# Altium integrated library Analog Devices Switches and Multiplexers Multiplexers (Muxes).IntLib: 481 symbols (part 18 of 23)
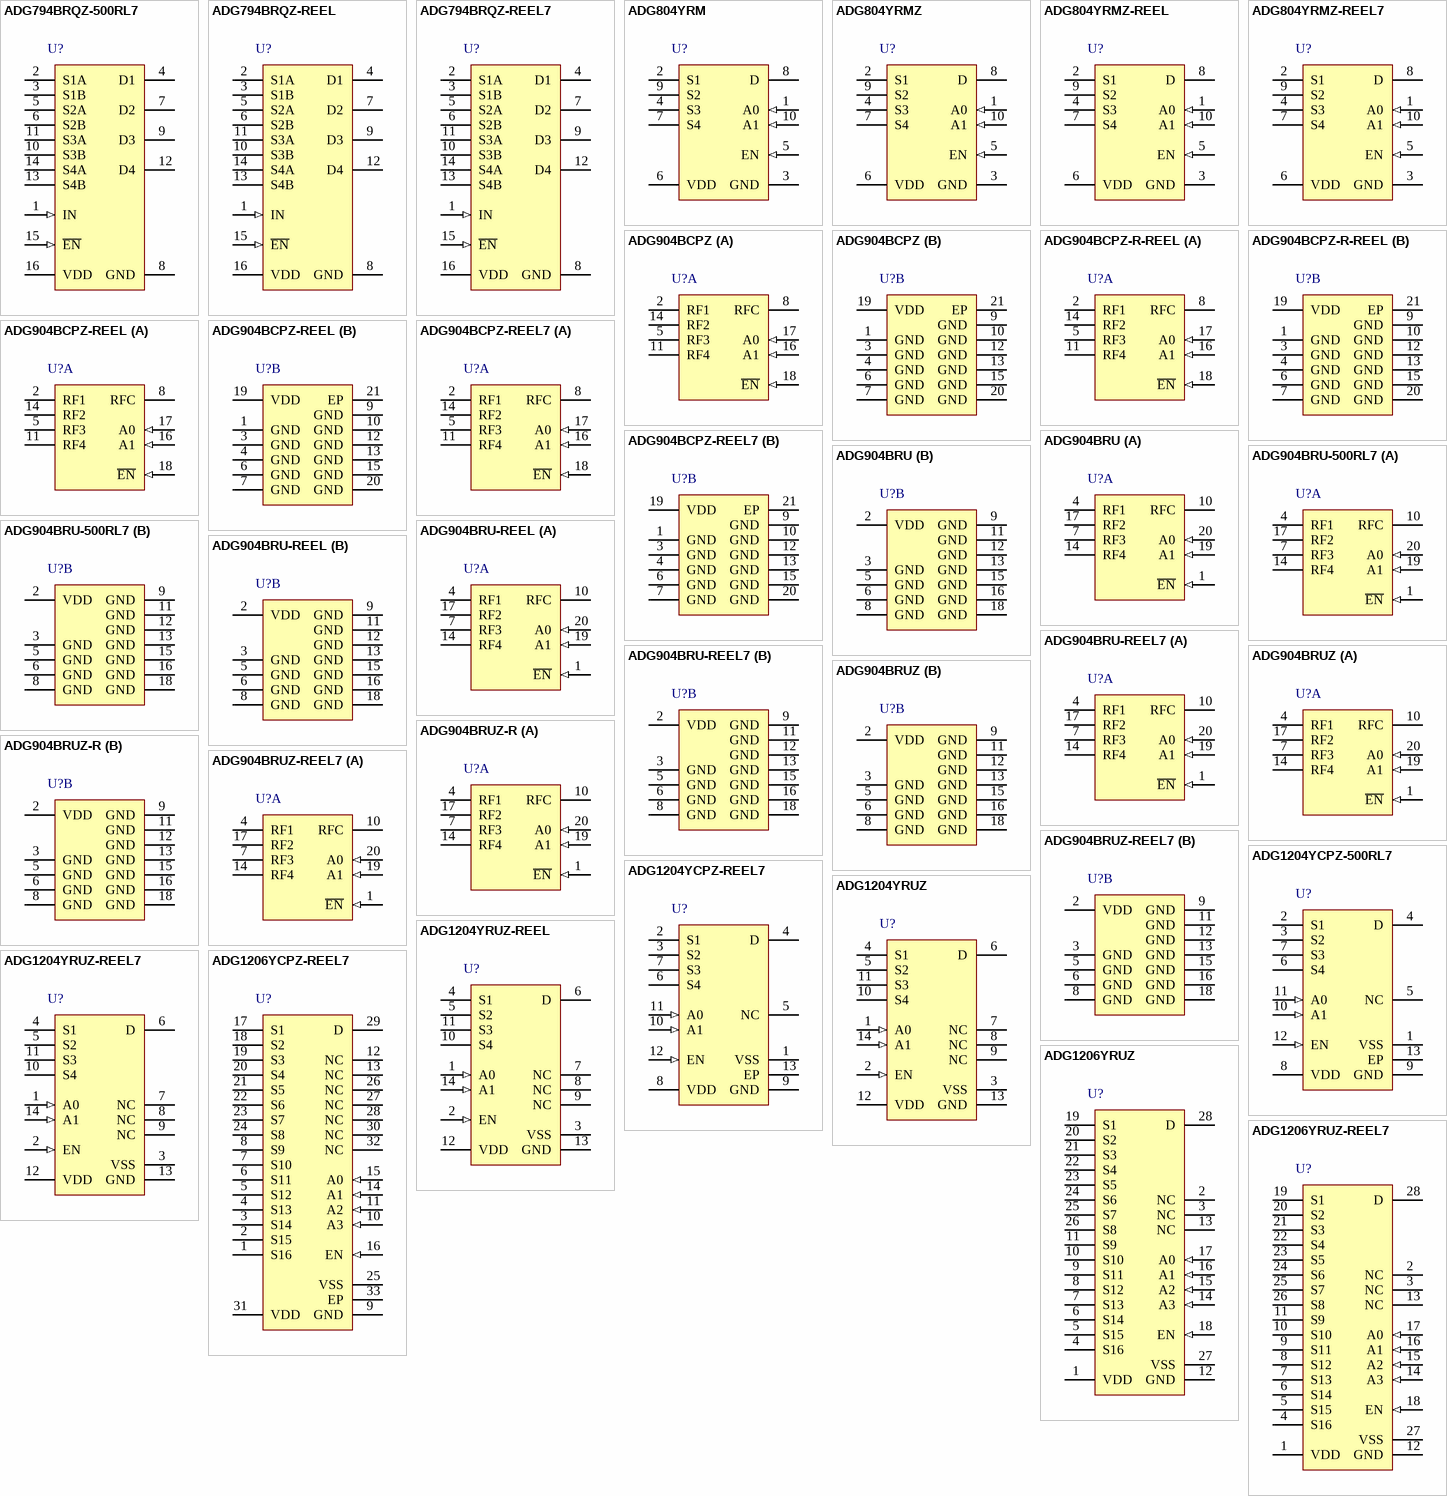
[diagram p34: symbols ADG794BRQZ-500RL7 to ADG1206YRUZ-REEL7]

## ADG904BCPZ-R-REEL
designator U?
Wideband 2.5 GHz, 37 dB Isolation at 1 GHz, CMOS 1.65 to 2.75 V, 4:1 Mux / SP4T, -40 to 85 degC, 20-pin QFN (CP-20-1), Reel; Manufacturer: Analog Devices; PartNumber: ADG904BCPZ-R-REEL; Bandwidth (Hz): 2.5G; Supply V Guar Performance: Single_(+2.5V); t transition (s): 12n; DatasheetVersion: Rev. B; PackageVersion: 061708-A, 07/2011; PackageReference: CP-20-6; PackageDescription: 20-Pin Lead Frame Chip Scale Package, Body 4 x 4 mm, Pitch 0.5 mm; Supplier 1: Mouser; Supplier Part Number 1: N/A; Packing: Reel; Mounting Technology: Surface Mount; Code_JEDEC: MO-220; ComponentLink1Description: Manufacturer URL; ComponentLink1URL: http://www.analog.com/en/index.html; ComponentLink2Description: Datasheet; ComponentLink2URL: http://www.analog.com/static/imported-files/data_sheets/ADG904_904R.pdf; ComponentLink3Description: Package Specification; ComponentLink3URL: http://www.analog.com/static/imported-files/packages/PKG_PDF/LFCSP(CP)/CP_20_6.pdf
footprint ADI-CP-20-6_N (QFN, 20-Leads, Body 4x4mm, Pitch 0.5mm, Thermal Pad 2.15x2.15mm, IPC Medium Density)
footprint ADI-CP-20-6_L (QFN, 20-Leads, Body 4x4mm, Pitch 0.5mm, Thermal Pad 2.15x2.15mm, IPC High Density)
footprint ADI-CP-20-6_M (QFN, 20-Leads, Body 4x4mm, Pitch 0.5mm, Thermal Pad 2.15x2.15mm, IPC Low Density)
part A pins: 2 RF1 "RF1 Port.", 5 RF3 "RF3 Port.", 8 RFC "Common RF Port for Switch.", 11 RF4 "RF4 Port.", 14 RF2 "RF2 Port.", 16 A1 (in) "Logic Control Input.", 17 A0 (in) "Logic Control Input.", 18 ~{EN} (in) "Active Low Digital Input. When high, the device is disabled and all switches are off. When low, Ax logic inputs determine On switches."
part B pins: 1 GND (power) "Ground Reference Point for All Circuitry on the Part.", 3 GND (power) "Ground Reference Point for All Circuitry on the Part.", 4 GND (power) "Ground Reference Point for All Circuitry on the Part.", 6 GND (power) "Ground Reference Point for All Circuitry on the Part.", 7 GND (power) "Ground Reference Point for All Circuitry on the Part.", 9 GND (power) "Ground Reference Point for All Circuitry on the Part.", 10 GND (power) "Ground Reference Point for All Circuitry on the Part.", 12 GND (power) "Ground Reference Point for All Circuitry on the Part.", 13 GND (power) "Ground Reference Point for All Circuitry on the Part.", 15 GND (power) "Ground Reference Point for All Circuitry on the Part.", 19 VDD (power) "Power Supply Input. These parts can be operated from 1.65 V to 2.75 V. VDD should be decoupled to GND.", 20 GND (power) "Ground Reference Point for All Circuitry on the Part.", 21 EP (power) "Exposed Pad."

## ADG904BCPZ-REEL
designator U?
Wideband 2.5 GHz, 37 dB Isolation at 1 GHz, CMOS 1.65 to 2.75 V, 4:1 Mux / SP4T, -40 to 85 degC, 20-pin QFN (CP-20-1), Reel; Manufacturer: Analog Devices; PartNumber: ADG904BCPZ-REEL; Bandwidth (Hz): 2.5G; Supply V Guar Performance: Single_(+2.5V); t transition (s): 12n; DatasheetVersion: Rev. B; PackageVersion: 061708-A, 07/2011; PackageReference: CP-20-6; PackageDescription: 20-Pin Lead Frame Chip Scale Package, Body 4 x 4 mm, Pitch 0.5 mm; Supplier 1: Digi-Key; Supplier Part Number 1: ADG904BCPZ-REEL-ND; Supplier 2: Mouser; Supplier Part Number 2: 584-ADG904BCPZ-R; Packing: Reel; Mounting Technology: Surface Mount; Code_JEDEC: MO-220; ComponentLink1Description: Manufacturer URL; ComponentLink1URL: http://www.analog.com/en/index.html; ComponentLink2Description: Datasheet; ComponentLink2URL: http://www.analog.com/static/imported-files/data_sheets/ADG904_904R.pdf; ComponentLink3Description: Package Specification; ComponentLink3URL: http://www.analog.com/static/imported-files/packages/PKG_PDF/LFCSP(CP)/CP_20_6.pdf
footprint ADI-CP-20-6_N (QFN, 20-Leads, Body 4x4mm, Pitch 0.5mm, Thermal Pad 2.15x2.15mm, IPC Medium Density)
footprint ADI-CP-20-6_L (QFN, 20-Leads, Body 4x4mm, Pitch 0.5mm, Thermal Pad 2.15x2.15mm, IPC High Density)
footprint ADI-CP-20-6_M (QFN, 20-Leads, Body 4x4mm, Pitch 0.5mm, Thermal Pad 2.15x2.15mm, IPC Low Density)
part A pins: 2 RF1 "RF1 Port.", 5 RF3 "RF3 Port.", 8 RFC "Common RF Port for Switch.", 11 RF4 "RF4 Port.", 14 RF2 "RF2 Port.", 16 A1 (in) "Logic Control Input.", 17 A0 (in) "Logic Control Input.", 18 ~{EN} (in) "Active Low Digital Input. When high, the device is disabled and all switches are off. When low, Ax logic inputs determine On switches."
part B pins: 1 GND (power) "Ground Reference Point for All Circuitry on the Part.", 3 GND (power) "Ground Reference Point for All Circuitry on the Part.", 4 GND (power) "Ground Reference Point for All Circuitry on the Part.", 6 GND (power) "Ground Reference Point for All Circuitry on the Part.", 7 GND (power) "Ground Reference Point for All Circuitry on the Part.", 9 GND (power) "Ground Reference Point for All Circuitry on the Part.", 10 GND (power) "Ground Reference Point for All Circuitry on the Part.", 12 GND (power) "Ground Reference Point for All Circuitry on the Part.", 13 GND (power) "Ground Reference Point for All Circuitry on the Part.", 15 GND (power) "Ground Reference Point for All Circuitry on the Part.", 19 VDD (power) "Power Supply Input. These parts can be operated from 1.65 V to 2.75 V. VDD should be decoupled to GND.", 20 GND (power) "Ground Reference Point for All Circuitry on the Part.", 21 EP (power) "Exposed Pad."

## ADG904BCPZ-REEL7
designator U?
Wideband 2.5 GHz, 37 dB Isolation at 1 GHz, CMOS 1.65 to 2.75 V, 4:1 Mux / SP4T, -40 to 85 degC, 20-pin QFN (CP-20-1), Reel; Manufacturer: Analog Devices; PartNumber: ADG904BCPZ-REEL7; Bandwidth (Hz): 2.5G; Supply V Guar Performance: Single_(+2.5V); t transition (s): 12n; DatasheetVersion: Rev. B; PackageVersion: 061708-A, 07/2011; PackageReference: CP-20-6; PackageDescription: 20-Pin Lead Frame Chip Scale Package, Body 4 x 4 mm, Pitch 0.5 mm; Supplier 1: Digi-Key; Supplier Part Number 1: ADG904BCPZ-REEL7-ND; Supplier 2: Mouser; Supplier Part Number 2: 584-ADG904BCPZ-R7; Packing: Reel; Mounting Technology: Surface Mount; Code_JEDEC: MO-220; ComponentLink1Description: Manufacturer URL; ComponentLink1URL: http://www.analog.com/en/index.html; ComponentLink2Description: Datasheet; ComponentLink2URL: http://www.analog.com/static/imported-files/data_sheets/ADG904_904R.pdf; ComponentLink3Description: Package Specification; ComponentLink3URL: http://www.analog.com/static/imported-files/packages/PKG_PDF/LFCSP(CP)/CP_20_6.pdf
footprint ADI-CP-20-6_N (QFN, 20-Leads, Body 4x4mm, Pitch 0.5mm, Thermal Pad 2.15x2.15mm, IPC Medium Density)
footprint ADI-CP-20-6_L (QFN, 20-Leads, Body 4x4mm, Pitch 0.5mm, Thermal Pad 2.15x2.15mm, IPC High Density)
footprint ADI-CP-20-6_M (QFN, 20-Leads, Body 4x4mm, Pitch 0.5mm, Thermal Pad 2.15x2.15mm, IPC Low Density)
part A pins: 2 RF1 "RF1 Port.", 5 RF3 "RF3 Port.", 8 RFC "Common RF Port for Switch.", 11 RF4 "RF4 Port.", 14 RF2 "RF2 Port.", 16 A1 (in) "Logic Control Input.", 17 A0 (in) "Logic Control Input.", 18 ~{EN} (in) "Active Low Digital Input. When high, the device is disabled and all switches are off. When low, Ax logic inputs determine On switches."
part B pins: 1 GND (power) "Ground Reference Point for All Circuitry on the Part.", 3 GND (power) "Ground Reference Point for All Circuitry on the Part.", 4 GND (power) "Ground Reference Point for All Circuitry on the Part.", 6 GND (power) "Ground Reference Point for All Circuitry on the Part.", 7 GND (power) "Ground Reference Point for All Circuitry on the Part.", 9 GND (power) "Ground Reference Point for All Circuitry on the Part.", 10 GND (power) "Ground Reference Point for All Circuitry on the Part.", 12 GND (power) "Ground Reference Point for All Circuitry on the Part.", 13 GND (power) "Ground Reference Point for All Circuitry on the Part.", 15 GND (power) "Ground Reference Point for All Circuitry on the Part.", 19 VDD (power) "Power Supply Input. These parts can be operated from 1.65 V to 2.75 V. VDD should be decoupled to GND.", 20 GND (power) "Ground Reference Point for All Circuitry on the Part.", 21 EP (power) "Exposed Pad."

## ADG904BRU
designator U?
Wideband 2.5 GHz, 37 dB Isolation at 1 GHz, CMOS 1.65 to 2.75 V, 4:1 Mux / SP4T, -40 to 85 degC, 20-pin SOP (RU-20), Tube; Manufacturer: Analog Devices; PartNumber: ADG904BRU; Bandwidth (Hz): 2.5G; Supply V Guar Performance: Single_(+2.5V); t transition (s): 12n; DatasheetVersion: Rev. B; PackageVersion: Jan-03; PackageReference: RU-20; PackageDescription: 20-Pin Thin Shrink Small Outline Package, Body 6.5 x 4.4 mm, Pitch 0.65 mm; Supplier 1: Digi-Key; Supplier Part Number 1: ADG904BRU-ND; Supplier 2: Newark; Supplier Part Number 2: 59K1698; Supplier 3: Mouser; Supplier Part Number 3: N/A; Packing: Tube; Mounting Technology: Surface Mount; Code_JEDEC: MO-153AC; ComponentLink1Description: Manufacturer URL; ComponentLink1URL: http://www.analog.com/en/index.html; ComponentLink2Description: Datasheet; ComponentLink2URL: http://www.analog.com/static/imported-files/data_sheets/ADG904_904R.pdf; ComponentLink3Description: Package Specification; ComponentLink3URL: http://www.analog.com/static/imported-files/packages/364515793657813558433715854054607941441RU20.pdf
footprint ADI-RU-20_N (SOP, 20-Leads, Body 6.5x4.4mm, Pitch 0.65mm, IPC Medium Density)
footprint ADI-RU-20_L (SOP, 20-Leads, Body 6.5x4.4mm, Pitch 0.65mm, IPC High Density)
footprint ADI-RU-20_M (SOP, 20-Leads, Body 6.5x4.4mm, Pitch 0.65mm, IPC Low Density)
part A pins: 1 ~{EN} (in) "Active Low Digital Input. When high, the device is disabled and all switches are off. When low, Ax logic inputs determine On switches.", 4 RF1 "RF1 Port.", 7 RF3 "RF3 Port.", 10 RFC "Common RF Port for Switch.", 14 RF4 "RF4 Port.", 17 RF2 "RF2 Port.", 19 A1 (in) "Logic Control Input.", 20 A0 (in) "Logic Control Input."
part B pins: 2 VDD (power) "Power Supply Input. These parts can be operated from 1.65 V to 2.75 V. VDD should be decoupled to GND.", 3 GND (power) "Ground Reference Point for All Circuitry on the Part.", 5 GND (power) "Ground Reference Point for All Circuitry on the Part.", 6 GND (power) "Ground Reference Point for All Circuitry on the Part.", 8 GND (power) "Ground Reference Point for All Circuitry on the Part.", 9 GND (power) "Ground Reference Point for All Circuitry on the Part.", 11 GND (power) "Ground Reference Point for All Circuitry on the Part.", 12 GND (power) "Ground Reference Point for All Circuitry on the Part.", 13 GND (power) "Ground Reference Point for All Circuitry on the Part.", 15 GND (power) "Ground Reference Point for All Circuitry on the Part.", 16 GND (power) "Ground Reference Point for All Circuitry on the Part.", 18 GND (power) "Ground Reference Point for All Circuitry on the Part."

## ADG904BRU-500RL7
designator U?
Wideband 2.5 GHz, 37 dB Isolation at 1 GHz, CMOS 1.65 to 2.75 V, 4:1 Mux / SP4T, -40 to 85 degC, 20-pin SOP (RU-20), Reel; Manufacturer: Analog Devices; PartNumber: ADG904BRU-500RL7; Bandwidth (Hz): 2.5G; Supply V Guar Performance: Single (+1.65V to +2.75V); t transition (s): 12n; DatasheetVersion: Rev. B; PackageVersion: Jan-03; PackageReference: RU-20; PackageDescription: 20-Pin Thin Shrink Small Outline Package, Body 6.5 x 4.4 mm, Pitch 0.65 mm; Supplier 1: Mouser; Supplier Part Number 1: N/A; Packing: Reel; Mounting Technology: Surface Mount; Code_JEDEC: MO-153AC; ComponentLink1Description: Manufacturer URL; ComponentLink1URL: http://www.analog.com/en/index.html; ComponentLink2Description: Datasheet; ComponentLink2URL: http://www.analog.com/static/imported-files/data_sheets/ADG904_904R.pdf; ComponentLink3Description: Package Specification; ComponentLink3URL: http://www.analog.com/static/imported-files/packages/364515793657813558433715854054607941441RU20.pdf
footprint ADI-RU-20_N (SOP, 20-Leads, Body 6.5x4.4mm, Pitch 0.65mm, IPC Medium Density)
footprint ADI-RU-20_L (SOP, 20-Leads, Body 6.5x4.4mm, Pitch 0.65mm, IPC High Density)
footprint ADI-RU-20_M (SOP, 20-Leads, Body 6.5x4.4mm, Pitch 0.65mm, IPC Low Density)
part A pins: 1 ~{EN} (in) "Active Low Digital Input. When high, the device is disabled and all switches are off. When low, Ax logic inputs determine On switches.", 4 RF1 "RF1 Port.", 7 RF3 "RF3 Port.", 10 RFC "Common RF Port for Switch.", 14 RF4 "RF4 Port.", 17 RF2 "RF2 Port.", 19 A1 (in) "Logic Control Input.", 20 A0 (in) "Logic Control Input."
part B pins: 2 VDD (power) "Power Supply Input. These parts can be operated from 1.65 V to 2.75 V. VDD should be decoupled to GND.", 3 GND (power) "Ground Reference Point for All Circuitry on the Part.", 5 GND (power) "Ground Reference Point for All Circuitry on the Part.", 6 GND (power) "Ground Reference Point for All Circuitry on the Part.", 8 GND (power) "Ground Reference Point for All Circuitry on the Part.", 9 GND (power) "Ground Reference Point for All Circuitry on the Part.", 11 GND (power) "Ground Reference Point for All Circuitry on the Part.", 12 GND (power) "Ground Reference Point for All Circuitry on the Part.", 13 GND (power) "Ground Reference Point for All Circuitry on the Part.", 15 GND (power) "Ground Reference Point for All Circuitry on the Part.", 16 GND (power) "Ground Reference Point for All Circuitry on the Part.", 18 GND (power) "Ground Reference Point for All Circuitry on the Part."

## ADG904BRU-REEL
designator U?
Wideband 2.5 GHz, 37 dB Isolation at 1 GHz, CMOS 1.65 to 2.75 V, 4:1 Mux / SP4T, -40 to 85 degC, 20-pin SOP (RU-20), Reel; Manufacturer: Analog Devices; PartNumber: ADG904BRU-REEL; Bandwidth (Hz): 2.5G; Supply V Guar Performance: Single (+1.65V to +2.75V); DatasheetVersion: Rev. B; PackageVersion: Jan-03; PackageReference: RU-20; PackageDescription: 20-Pin Thin Shrink Small Outline Package, Body 6.5 x 4.4 mm, Pitch 0.65 mm; Supplier 1: Digi-Key; Supplier Part Number 1: ADG904BRU-REEL-ND; Supplier 2: Newark; Supplier Part Number 2: 59K1702; Supplier 3: Mouser; Supplier Part Number 3: N/A; Packing: Reel; Mounting Technology: Surface Mount; Code_JEDEC: MO-153AC; ComponentLink1Description: Manufacturer URL; ComponentLink1URL: http://www.analog.com/en/index.html; ComponentLink2Description: Datasheet; ComponentLink2URL: http://www.analog.com/static/imported-files/data_sheets/ADG904_904R.pdf; ComponentLink3Description: Package Specification; ComponentLink3URL: http://www.analog.com/static/imported-files/packages/364515793657813558433715854054607941441RU20.pdf
footprint ADI-RU-20_N (SOP, 20-Leads, Body 6.5x4.4mm, Pitch 0.65mm, IPC Medium Density)
footprint ADI-RU-20_L (SOP, 20-Leads, Body 6.5x4.4mm, Pitch 0.65mm, IPC High Density)
footprint ADI-RU-20_M (SOP, 20-Leads, Body 6.5x4.4mm, Pitch 0.65mm, IPC Low Density)
part A pins: 1 ~{EN} (in) "Active Low Digital Input. When high, the device is disabled and all switches are off. When low, Ax logic inputs determine On switches.", 4 RF1 "RF1 Port.", 7 RF3 "RF3 Port.", 10 RFC "Common RF Port for Switch.", 14 RF4 "RF4 Port.", 17 RF2 "RF2 Port.", 19 A1 (in) "Logic Control Input.", 20 A0 (in) "Logic Control Input."
part B pins: 2 VDD (power) "Power Supply Input. These parts can be operated from 1.65 V to 2.75 V. VDD should be decoupled to GND.", 3 GND (power) "Ground Reference Point for All Circuitry on the Part.", 5 GND (power) "Ground Reference Point for All Circuitry on the Part.", 6 GND (power) "Ground Reference Point for All Circuitry on the Part.", 8 GND (power) "Ground Reference Point for All Circuitry on the Part.", 9 GND (power) "Ground Reference Point for All Circuitry on the Part.", 11 GND (power) "Ground Reference Point for All Circuitry on the Part.", 12 GND (power) "Ground Reference Point for All Circuitry on the Part.", 13 GND (power) "Ground Reference Point for All Circuitry on the Part.", 15 GND (power) "Ground Reference Point for All Circuitry on the Part.", 16 GND (power) "Ground Reference Point for All Circuitry on the Part.", 18 GND (power) "Ground Reference Point for All Circuitry on the Part."

## ADG904BRU-REEL7
designator U?
Wideband 2.5 GHz, 37 dB Isolation at 1 GHz, CMOS 1.65 to 2.75 V, 4:1 Mux / SP4T, -40 to 85 degC, 20-pin SOP (RU-20), Reel; Manufacturer: Analog Devices; PartNumber: ADG904BRU-REEL7; Bandwidth (Hz): 2.5G; Supply V Guar Performance: Single_(+2.5V); t transition (s): 12n; DatasheetVersion: Rev. B; PackageVersion: Jan-03; PackageReference: RU-20; PackageDescription: 20-Pin Thin Shrink Small Outline Package, Body 6.5 x 4.4 mm, Pitch 0.65 mm; Supplier 1: Digi-Key; Supplier Part Number 1: ADG904BRU-REEL7-ND; Packing: Reel; Mounting Technology: Surface Mount; Code_JEDEC: MO-153AC; ComponentLink1Description: Manufacturer URL; ComponentLink1URL: http://www.analog.com/en/index.html; ComponentLink2Description: Datasheet; ComponentLink2URL: http://www.analog.com/static/imported-files/data_sheets/ADG904_904R.pdf; ComponentLink3Description: Package Specification; ComponentLink3URL: http://www.analog.com/static/imported-files/packages/364515793657813558433715854054607941441RU20.pdf
footprint ADI-RU-20_N (SOP, 20-Leads, Body 6.5x4.4mm, Pitch 0.65mm, IPC Medium Density)
footprint ADI-RU-20_L (SOP, 20-Leads, Body 6.5x4.4mm, Pitch 0.65mm, IPC High Density)
footprint ADI-RU-20_M (SOP, 20-Leads, Body 6.5x4.4mm, Pitch 0.65mm, IPC Low Density)
part A pins: 1 ~{EN} (in) "Active Low Digital Input. When high, the device is disabled and all switches are off. When low, Ax logic inputs determine On switches.", 4 RF1 "RF1 Port.", 7 RF3 "RF3 Port.", 10 RFC "Common RF Port for Switch.", 14 RF4 "RF4 Port.", 17 RF2 "RF2 Port.", 19 A1 (in) "Logic Control Input.", 20 A0 (in) "Logic Control Input."
part B pins: 2 VDD (power) "Power Supply Input. These parts can be operated from 1.65 V to 2.75 V. VDD should be decoupled to GND.", 3 GND (power) "Ground Reference Point for All Circuitry on the Part.", 5 GND (power) "Ground Reference Point for All Circuitry on the Part.", 6 GND (power) "Ground Reference Point for All Circuitry on the Part.", 8 GND (power) "Ground Reference Point for All Circuitry on the Part.", 9 GND (power) "Ground Reference Point for All Circuitry on the Part.", 11 GND (power) "Ground Reference Point for All Circuitry on the Part.", 12 GND (power) "Ground Reference Point for All Circuitry on the Part.", 13 GND (power) "Ground Reference Point for All Circuitry on the Part.", 15 GND (power) "Ground Reference Point for All Circuitry on the Part.", 16 GND (power) "Ground Reference Point for All Circuitry on the Part.", 18 GND (power) "Ground Reference Point for All Circuitry on the Part."

## ADG904BRUZ
designator U?
Wideband 2.5 GHz, 37 dB Isolation at 1 GHz, CMOS 1.65 to 2.75 V, 4:1 Mux / SP4T, -40 to 85 degC, 20-pin SOP (RU-20), Tube; Manufacturer: Analog Devices; PartNumber: ADG904BRUZ; Bandwidth (Hz): 2.5G; Supply V Guar Performance: Single_(+2.5V); t transition (s): 12n; DatasheetVersion: Rev. B; PackageVersion: Jan-03; PackageReference: RU-20; PackageDescription: 20-Pin Thin Shrink Small Outline Package, Body 6.5 x 4.4 mm, Pitch 0.65 mm; Supplier 1: Digi-Key; Supplier Part Number 1: ADG904BRUZ-ND; Supplier 2: Farnell; Supplier Part Number 2: 2074875; Supplier 3: Newark; Supplier Part Number 3: 12M7862; Supplier 4: Mouser; Supplier Part Number 4: 584-ADG904BRUZ; Packing: Tube; Mounting Technology: Surface Mount; Code_JEDEC: MO-153AC; ComponentLink1Description: Manufacturer URL; ComponentLink1URL: http://www.analog.com/en/index.html; ComponentLink2Description: Datasheet; ComponentLink2URL: http://www.analog.com/static/imported-files/data_sheets/ADG904_904R.pdf; ComponentLink3Description: Package Specification; ComponentLink3URL: http://www.analog.com/static/imported-files/packages/364515793657813558433715854054607941441RU20.pdf
footprint ADI-RU-20_N (SOP, 20-Leads, Body 6.5x4.4mm, Pitch 0.65mm, IPC Medium Density)
footprint ADI-RU-20_L (SOP, 20-Leads, Body 6.5x4.4mm, Pitch 0.65mm, IPC High Density)
footprint ADI-RU-20_M (SOP, 20-Leads, Body 6.5x4.4mm, Pitch 0.65mm, IPC Low Density)
part A pins: 1 ~{EN} (in) "Active Low Digital Input. When high, the device is disabled and all switches are off. When low, Ax logic inputs determine On switches.", 4 RF1 "RF1 Port.", 7 RF3 "RF3 Port.", 10 RFC "Common RF Port for Switch.", 14 RF4 "RF4 Port.", 17 RF2 "RF2 Port.", 19 A1 (in) "Logic Control Input.", 20 A0 (in) "Logic Control Input."
part B pins: 2 VDD (power) "Power Supply Input. These parts can be operated from 1.65 V to 2.75 V. VDD should be decoupled to GND.", 3 GND (power) "Ground Reference Point for All Circuitry on the Part.", 5 GND (power) "Ground Reference Point for All Circuitry on the Part.", 6 GND (power) "Ground Reference Point for All Circuitry on the Part.", 8 GND (power) "Ground Reference Point for All Circuitry on the Part.", 9 GND (power) "Ground Reference Point for All Circuitry on the Part.", 11 GND (power) "Ground Reference Point for All Circuitry on the Part.", 12 GND (power) "Ground Reference Point for All Circuitry on the Part.", 13 GND (power) "Ground Reference Point for All Circuitry on the Part.", 15 GND (power) "Ground Reference Point for All Circuitry on the Part.", 16 GND (power) "Ground Reference Point for All Circuitry on the Part.", 18 GND (power) "Ground Reference Point for All Circuitry on the Part."

## ADG904BRUZ-R
designator U?
Wideband 2.5 GHz, 37 dB Isolation at 1 GHz, CMOS 1.65 to 2.75 V, 4:1 Mux / SP4T, -40 to 85 degC, 20-pin SOP (RU-20), Tube; Manufacturer: Analog Devices; PartNumber: ADG904BRUZ-R; Bandwidth (Hz): 2.5G; Supply V Guar Performance: Single_(+2.5V); t transition (s): 12n; DatasheetVersion: Rev. B; PackageVersion: Jan-03; PackageReference: RU-20; PackageDescription: 20-Pin Thin Shrink Small Outline Package, Body 6.5 x 4.4 mm, Pitch 0.65 mm; Supplier 1: Digi-Key; Supplier Part Number 1: ADG904BRUZ-R-ND; Supplier 2: Mouser; Supplier Part Number 2: 584-ADG904BRUZ-R; Packing: Tube; Mounting Technology: Surface Mount; Code_JEDEC: MO-153AC; ComponentLink1Description: Manufacturer URL; ComponentLink1URL: http://www.analog.com/en/index.html; ComponentLink2Description: Datasheet; ComponentLink2URL: http://www.analog.com/static/imported-files/data_sheets/ADG904_904R.pdf; ComponentLink3Description: Package Specification; ComponentLink3URL: http://www.analog.com/static/imported-files/packages/364515793657813558433715854054607941441RU20.pdf
footprint ADI-RU-20_N (SOP, 20-Leads, Body 6.5x4.4mm, Pitch 0.65mm, IPC Medium Density)
footprint ADI-RU-20_L (SOP, 20-Leads, Body 6.5x4.4mm, Pitch 0.65mm, IPC High Density)
footprint ADI-RU-20_M (SOP, 20-Leads, Body 6.5x4.4mm, Pitch 0.65mm, IPC Low Density)
part A pins: 1 ~{EN} (in) "Active Low Digital Input. When high, the device is disabled and all switches are off. When low, Ax logic inputs determine On switches.", 4 RF1 "RF1 Port.", 7 RF3 "RF3 Port.", 10 RFC "Common RF Port for Switch.", 14 RF4 "RF4 Port.", 17 RF2 "RF2 Port.", 19 A1 (in) "Logic Control Input.", 20 A0 (in) "Logic Control Input."
part B pins: 2 VDD (power) "Power Supply Input. These parts can be operated from 1.65 V to 2.75 V. VDD should be decoupled to GND.", 3 GND (power) "Ground Reference Point for All Circuitry on the Part.", 5 GND (power) "Ground Reference Point for All Circuitry on the Part.", 6 GND (power) "Ground Reference Point for All Circuitry on the Part.", 8 GND (power) "Ground Reference Point for All Circuitry on the Part.", 9 GND (power) "Ground Reference Point for All Circuitry on the Part.", 11 GND (power) "Ground Reference Point for All Circuitry on the Part.", 12 GND (power) "Ground Reference Point for All Circuitry on the Part.", 13 GND (power) "Ground Reference Point for All Circuitry on the Part.", 15 GND (power) "Ground Reference Point for All Circuitry on the Part.", 16 GND (power) "Ground Reference Point for All Circuitry on the Part.", 18 GND (power) "Ground Reference Point for All Circuitry on the Part."

## ADG904BRUZ-REEL7
designator U?
Wideband 2.5 GHz, 37 dB Isolation at 1 GHz, CMOS 1.65 to 2.75 V, 4:1 Mux / SP4T, -40 to 85 degC, 20-pin SOP (RU-20), Reel; Manufacturer: Analog Devices; PartNumber: ADG904BRUZ-REEL7; Bandwidth (Hz): 2.5G; Supply V Guar Performance: Single_(+2.5V); t transition (s): 12n; DatasheetVersion: Rev. B; PackageVersion: Jan-03; PackageReference: RU-20; PackageDescription: 20-Pin Thin Shrink Small Outline Package, Body 6.5 x 4.4 mm, Pitch 0.65 mm; Supplier 1: Digi-Key; Supplier Part Number 1: ADG904BRUZ-REEL7-ND; Supplier 2: Mouser; Supplier Part Number 2: 584-ADG904BRUZ-R7; Packing: Reel; Mounting Technology: Surface Mount; Code_JEDEC: MO-153AC; ComponentLink1Description: Manufacturer URL; ComponentLink1URL: http://www.analog.com/en/index.html; ComponentLink2Description: Datasheet; ComponentLink2URL: http://www.analog.com/static/imported-files/data_sheets/ADG904_904R.pdf; ComponentLink3Description: Package Specification; ComponentLink3URL: http://www.analog.com/static/imported-files/packages/364515793657813558433715854054607941441RU20.pdf
footprint ADI-RU-20_N (SOP, 20-Leads, Body 6.5x4.4mm, Pitch 0.65mm, IPC Medium Density)
footprint ADI-RU-20_L (SOP, 20-Leads, Body 6.5x4.4mm, Pitch 0.65mm, IPC High Density)
footprint ADI-RU-20_M (SOP, 20-Leads, Body 6.5x4.4mm, Pitch 0.65mm, IPC Low Density)
part A pins: 1 ~{EN} (in) "Active Low Digital Input. When high, the device is disabled and all switches are off. When low, Ax logic inputs determine On switches.", 4 RF1 "RF1 Port.", 7 RF3 "RF3 Port.", 10 RFC "Common RF Port for Switch.", 14 RF4 "RF4 Port.", 17 RF2 "RF2 Port.", 19 A1 (in) "Logic Control Input.", 20 A0 (in) "Logic Control Input."
part B pins: 2 VDD (power) "Power Supply Input. These parts can be operated from 1.65 V to 2.75 V. VDD should be decoupled to GND.", 3 GND (power) "Ground Reference Point for All Circuitry on the Part.", 5 GND (power) "Ground Reference Point for All Circuitry on the Part.", 6 GND (power) "Ground Reference Point for All Circuitry on the Part.", 8 GND (power) "Ground Reference Point for All Circuitry on the Part.", 9 GND (power) "Ground Reference Point for All Circuitry on the Part.", 11 GND (power) "Ground Reference Point for All Circuitry on the Part.", 12 GND (power) "Ground Reference Point for All Circuitry on the Part.", 13 GND (power) "Ground Reference Point for All Circuitry on the Part.", 15 GND (power) "Ground Reference Point for All Circuitry on the Part.", 16 GND (power) "Ground Reference Point for All Circuitry on the Part.", 18 GND (power) "Ground Reference Point for All Circuitry on the Part."

## ADG1204YCPZ-500RL7
designator U?
Low Capacitance, Low Charge Injection, +/-15 V / +12 V, 4:1 iCMOS Multiplexer, 120 Ohm Ron, 12-pin QFN (CP-12-1), Reel; Manufacturer: Analog Devices; PartNumber: ADG1204YCPZ-500RL7; Bandwidth (Hz): 800M, 550M; Max Analog Signal Range: Vss to Vdd; Ron (ohms): 120; t transition (s): 120n; DatasheetVersion: Rev. B; PackageReference: CP-12-1; PackageDescription: 12-Pin Lead Frame Chip Scale Package, Body 3 x 3 mm, Pitch 0.5 mm; Supplier 1: Digi-Key; Supplier Part Number 1: ADG1204YCPZ-500RL7TR-ND; Supplier 2: Digi-Key; Supplier Part Number 2: ADG1204YCPZ-500RL7CT-ND; Supplier 3: Digi-Key; Supplier Part Number 3: ADG1204YCPZ-500RL7DKR-ND; Supplier 4: Farnell; Supplier Part Number 4: 2377064; Supplier 5: Newark; Supplier Part Number 5: 59K1149; Supplier 6: Mouser; Supplier Part Number 6: 584-ADG1204YCPZ500R7; Packing: Reel; Mounting Technology: Surface Mount; Code_JEDEC: MO-220-VEED-1; ComponentLink1Description: Manufacturer URL; ComponentLink1URL: http://www.analog.com/en/index.html; ComponentLink2Description: Datasheet; ComponentLink2URL: http://www.analog.com/static/imported-files/data_sheets/ADG1204.pdf; ComponentLink3Description: Package Specification; ComponentLink3URL: http://www.analog.com/static/imported-files/packages/CP_12_1.pdf
footprint ADI-CP-12-1_N (QFN, 12-Leads, Body 3x3mm, Pitch 0.5mm, Thermal Pad 1.3x1.3mm, IPC Medium Density)
footprint ADI-CP-12-1_L (QFN, 12-Leads, Body 3x3mm, Pitch 0.5mm, Thermal Pad 1.3x1.3mm, IPC High Density)
footprint ADI-CP-12-1_M (QFN, 12-Leads, Body 3x3mm, Pitch 0.5mm, Thermal Pad 1.3x1.3mm, IPC Low Density)
pins: 1 VSS (power) "Most Negative Power Supply Potential.", 2 S1 "Source Terminal. Can be an input or an output.", 3 S2 "Source Terminal. Can be an input or an output.", 4 D "Drain Terminal. Can be an input or an output.", 5 NC "No Connection.", 6 S4 "Source Terminal. Can be an input or an output.", 7 S3 "Source Terminal. Can be an input or an output.", 8 VDD (power) "Most Positive Power Supply Potential.", 9 GND (power) "Ground (0 V) Reference.", 10 A1 (in) "Logic Control Input.", 11 A0 (in) "Logic Control Input.", 12 EN (in) "Active High Digital Input. When low, the device is disabled and all switches are off.   When high, Ax logic inputs determine on switches.", 13 EP (power) "Exposed Pad tied to substrate, VSS."

## ADG1204YCPZ-REEL7
designator U?
Low Capacitance, Low Charge Injection, +/-15 V / +12 V, 4:1 iCMOS Multiplexer, 120 Ohm Ron, 12-pin QFN (CP-12-1), Reel; Manufacturer: Analog Devices; PartNumber: ADG1204YCPZ-REEL7; Bandwidth (Hz): 800M, 550M; Max Analog Signal Range: Vss to Vdd; Ron (ohms): 120; t transition (s): 120n; DatasheetVersion: Rev. B; PackageReference: CP-12-1; PackageDescription: 12-Pin Lead Frame Chip Scale Package, Body 3 x 3 mm, Pitch 0.5 mm; Supplier 1: Digi-Key; Supplier Part Number 1: ADG1204YCPZ-REEL7TR-ND; Supplier 2: Digi-Key; Supplier Part Number 2: ADG1204YCPZ-REEL7CT-ND; Supplier 3: Digi-Key; Supplier Part Number 3: ADG1204YCPZ-REEL7DKR-ND; Supplier 4: Newark; Supplier Part Number 4: 59K1148; Supplier 5: Mouser; Supplier Part Number 5: 584-ADG1204YCPZ-R7; Packing: Reel; Mounting Technology: Surface Mount; Code_JEDEC: MO-220-VEED-1; ComponentLink1Description: Manufacturer URL; ComponentLink1URL: http://www.analog.com/en/index.html; ComponentLink2Description: Datasheet; ComponentLink2URL: http://www.analog.com/static/imported-files/data_sheets/ADG1204.pdf; ComponentLink3Description: Package Specification; ComponentLink3URL: http://www.analog.com/static/imported-files/packages/CP_12_1.pdf
footprint ADI-CP-12-1_N (QFN, 12-Leads, Body 3x3mm, Pitch 0.5mm, Thermal Pad 1.3x1.3mm, IPC Medium Density)
footprint ADI-CP-12-1_L (QFN, 12-Leads, Body 3x3mm, Pitch 0.5mm, Thermal Pad 1.3x1.3mm, IPC High Density)
footprint ADI-CP-12-1_M (QFN, 12-Leads, Body 3x3mm, Pitch 0.5mm, Thermal Pad 1.3x1.3mm, IPC Low Density)
pins: 1 VSS (power) "Most Negative Power Supply Potential.", 2 S1 "Source Terminal. Can be an input or an output.", 3 S2 "Source Terminal. Can be an input or an output.", 4 D "Drain Terminal. Can be an input or an output.", 5 NC "No Connection.", 6 S4 "Source Terminal. Can be an input or an output.", 7 S3 "Source Terminal. Can be an input or an output.", 8 VDD (power) "Most Positive Power Supply Potential.", 9 GND (power) "Ground (0 V) Reference.", 10 A1 (in) "Logic Control Input.", 11 A0 (in) "Logic Control Input.", 12 EN (in) "Active High Digital Input. When low, the device is disabled and all switches are off.   When high, Ax logic inputs determine on switches.", 13 EP (power) "Exposed Pad tied to substrate, VSS."

## ADG1204YRUZ
designator U?
Low Capacitance, Low Charge Injection, +/-15 V / +12 V, 4:1 iCMOS Multiplexer, 120 Ohm Ron, 14-pin SOP (RU-14), Tube; Manufacturer: Analog Devices; PartNumber: ADG1204YRUZ; Bandwidth (Hz): 800M, 550M; Max Analog Signal Range: Vss to Vdd; Ron (ohms): 120; t transition (s): 120n; DatasheetVersion: Rev. B; PackageVersion: Aug-02; PackageReference: RU-14; PackageDescription: 14-Pin Thin Shrink Small Outline Package, Body 5 x 4.4 mm, Pitch 0.65 mm; Supplier 1: Digi-Key; Supplier Part Number 1: ADG1204YRUZ-ND; Supplier 2: Farnell; Supplier Part Number 2: 1117872; Supplier 3: Newark; Supplier Part Number 3: 19M8641; Supplier 4: Mouser; Supplier Part Number 4: 584-ADG1204YRUZ; Packing: Tube; Mounting Technology: Surface Mount; Code_JEDEC: MO-153AB-1; ComponentLink1Description: Manufacturer URL; ComponentLink1URL: http://www.analog.com/en/index.html; ComponentLink2Description: Datasheet; ComponentLink2URL: http://www.analog.com/static/imported-files/data_sheets/ADG1204.pdf; ComponentLink3Description: Package Specification; ComponentLink3URL: http://www.analog.com/static/imported-files/packages/36057385283879153717235186773RU14.pdf
footprint ADI-RU-14_N (SOP, 14-Leads, Body 5x4.4mm, Pitch 0.65mm, IPC Medium Density)
footprint ADI-RU-14_L (SOP, 14-Leads, Body 5x4.4mm, Pitch 0.65mm, IPC High Density)
footprint ADI-RU-14_M (SOP, 14-Leads, Body 5x4.4mm, Pitch 0.65mm, IPC Low Density)
pins: 1 A0 (in) "Logic Control Input.", 2 EN (in) "Active High Digital Input. When low, the device is disabled and all switches are off. When high, Ax logic inputs determine on switches.", 3 VSS (power) "Most Negative Power Supply Potential.", 4 S1 "Source Terminal. Can be an input or an output.", 5 S2 "Source Terminal. Can be an input or an output.", 6 D "Drain Terminal. Can be an input or an output.", 7 NC "No Connection.", 8 NC "No Connection.", 9 NC "No Connection.", 10 S4 "Source Terminal. Can be an input or an output.", 11 S3 "Source Terminal. Can be an input or an output.", 12 VDD (power) "Most Positive Power Supply Potential.", 13 GND (power) "Ground (0 V) Reference.", 14 A1 (in) "Logic Control Input."

## ADG1204YRUZ-REEL
designator U?
Low Capacitance, Low Charge Injection, +/-15 V / +12 V, 4:1 iCMOS Multiplexer, 120 Ohm Ron, 14-pin SOP (RU-14), Reel; Manufacturer: Analog Devices; PartNumber: ADG1204YRUZ-REEL; Bandwidth (Hz): 800M, 550M; Max Analog Signal Range: Vss to Vdd; Ron (ohms): 120; t transition (s): 120n; DatasheetVersion: Rev. B; PackageVersion: Aug-02; PackageReference: RU-14; PackageDescription: 14-Pin Thin Shrink Small Outline Package, Body 5 x 4.4 mm, Pitch 0.65 mm; Supplier 1: Digi-Key; Supplier Part Number 1: ADG1204YRUZ-REEL-ND; Supplier 2: Mouser; Supplier Part Number 2: 584-ADG1204YRUZ-R; Packing: Reel; Mounting Technology: Surface Mount; Code_JEDEC: MO-153AB-1; ComponentLink1Description: Manufacturer URL; ComponentLink1URL: http://www.analog.com/en/index.html; ComponentLink2Description: Datasheet; ComponentLink2URL: http://www.analog.com/static/imported-files/data_sheets/ADG1204.pdf; ComponentLink3Description: Package Specification; ComponentLink3URL: http://www.analog.com/static/imported-files/packages/36057385283879153717235186773RU14.pdf
footprint ADI-RU-14_N (SOP, 14-Leads, Body 5x4.4mm, Pitch 0.65mm, IPC Medium Density)
footprint ADI-RU-14_L (SOP, 14-Leads, Body 5x4.4mm, Pitch 0.65mm, IPC High Density)
footprint ADI-RU-14_M (SOP, 14-Leads, Body 5x4.4mm, Pitch 0.65mm, IPC Low Density)
pins: 1 A0 (in) "Logic Control Input.", 2 EN (in) "Active High Digital Input. When low, the device is disabled and all switches are off. When high, Ax logic inputs determine on switches.", 3 VSS (power) "Most Negative Power Supply Potential.", 4 S1 "Source Terminal. Can be an input or an output.", 5 S2 "Source Terminal. Can be an input or an output.", 6 D "Drain Terminal. Can be an input or an output.", 7 NC "No Connection.", 8 NC "No Connection.", 9 NC "No Connection.", 10 S4 "Source Terminal. Can be an input or an output.", 11 S3 "Source Terminal. Can be an input or an output.", 12 VDD (power) "Most Positive Power Supply Potential.", 13 GND (power) "Ground (0 V) Reference.", 14 A1 (in) "Logic Control Input."

## ADG1204YRUZ-REEL7
designator U?
Low Capacitance, Low Charge Injection, +/-15 V / +12 V, 4:1 iCMOS Multiplexer, 120 Ohm Ron, 14-pin SOP (RU-14), Reel; Manufacturer: Analog Devices; PartNumber: ADG1204YRUZ-REEL7; Bandwidth (Hz): 800M, 550M; Max Analog Signal Range: Vss to Vdd; Ron (ohms): 120; t transition (s): 120n; DatasheetVersion: Rev. B; PackageVersion: Aug-02; PackageReference: RU-14; PackageDescription: 14-Pin Thin Shrink Small Outline Package, Body 5 x 4.4 mm, Pitch 0.65 mm; Supplier 1: Digi-Key; Supplier Part Number 1: ADG1204YRUZ-REEL7TR-ND; Supplier 2: Digi-Key; Supplier Part Number 2: ADG1204YRUZ-REEL7CT-ND; Supplier 3: Digi-Key; Supplier Part Number 3: ADG1204YRUZ-REEL7DKR-ND; Supplier 4: Mouser; Supplier Part Number 4: 584-ADG1204YRUZ-R7; Packing: Reel; Mounting Technology: Surface Mount; Code_JEDEC: MO-153AB-1; ComponentLink1Description: Manufacturer URL; ComponentLink1URL: http://www.analog.com/en/index.html; ComponentLink2Description: Datasheet; ComponentLink2URL: http://www.analog.com/static/imported-files/data_sheets/ADG1204.pdf; ComponentLink3Description: Package Specification; ComponentLink3URL: http://www.analog.com/static/imported-files/packages/36057385283879153717235186773RU14.pdf
footprint ADI-RU-14_N (SOP, 14-Leads, Body 5x4.4mm, Pitch 0.65mm, IPC Medium Density)
footprint ADI-RU-14_L (SOP, 14-Leads, Body 5x4.4mm, Pitch 0.65mm, IPC High Density)
footprint ADI-RU-14_M (SOP, 14-Leads, Body 5x4.4mm, Pitch 0.65mm, IPC Low Density)
pins: 1 A0 (in) "Logic Control Input.", 2 EN (in) "Active High Digital Input. When low, the device is disabled and all switches are off. When high, Ax logic inputs determine on switches.", 3 VSS (power) "Most Negative Power Supply Potential.", 4 S1 "Source Terminal. Can be an input or an output.", 5 S2 "Source Terminal. Can be an input or an output.", 6 D "Drain Terminal. Can be an input or an output.", 7 NC "No Connection.", 8 NC "No Connection.", 9 NC "No Connection.", 10 S4 "Source Terminal. Can be an input or an output.", 11 S3 "Source Terminal. Can be an input or an output.", 12 VDD (power) "Most Positive Power Supply Potential.", 13 GND (power) "Ground (0 V) Reference.", 14 A1 (in) "Logic Control Input."

## ADG1206YCPZ-REEL7
designator U?
Low Capacitance, 16-Channel +/-15 V / +12 V iCMOS(TM) Multiplexer, 120 Ohm, 32-pin QFN (CP-32-2), Reel; Manufacturer: Analog Devices; PartNumber: ADG1206YCPZ-REEL7; Bandwidth (Hz): 280M, 185M; Max Analog Signal Range: Vss to Vdd; Ron (ohms): 120; t transition (s): 80n; DatasheetVersion: Rev. A; PackageVersion: Jan-05; PackageReference: CP-32-2; PackageDescription: 32-Pin Lead Frame Chip Scale Package, Body 5 x 5 mm, Pitch 0.5 mm; Supplier 1: Digi-Key; Supplier Part Number 1: ADG1206YCPZ-REEL7TR-ND; Supplier 2: Digi-Key; Supplier Part Number 2: ADG1206YCPZ-REEL7CT-ND; Supplier 3: Digi-Key; Supplier Part Number 3: ADG1206YCPZ-REEL7DKR-ND; Supplier 4: Newark; Supplier Part Number 4: 34M4780; Supplier 5: Mouser; Supplier Part Number 5: 584-ADG1206YCPZ-R7; Packing: Reel; Mounting Technology: Surface Mount; Code_JEDEC: MO-220-VHHD-2; ComponentLink1Description: Manufacturer URL; ComponentLink1URL: http://www.analog.com/en/index.html; ComponentLink2Description: Datasheet; ComponentLink2URL: http://www.analog.com/static/imported-files/data_sheets/ADG1206_1207.pdf; ComponentLink3Description: Package Specification; ComponentLink3URL: http://www.analog.com/static/imported-files/packages/414143737956480539664569CP_32_2.pdf
footprint ADI-CP-32-2_N (QFN, 32-Leads, Body 5x5mm, Pitch 0.5mm, Thermal Pad 3.1x3.1mm, IPC Medium Density)
footprint ADI-CP-32-2_L (QFN, 32-Leads, Body 5x5mm, Pitch 0.5mm, Thermal Pad 3.1x3.1mm, IPC High Density)
footprint ADI-CP-32-2_M (QFN, 32-Leads, Body 5x5mm, Pitch 0.5mm, Thermal Pad 3.1x3.1mm, IPC Low Density)
pins: 1 S16 "Source Terminal 16. Can be an input or an output.", 2 S15 "Source Terminal 15. Can be an input or an output.", 3 S14 "Source Terminal 14. Can be an input or an output.", 4 S13 "Source Terminal 13. Can be an input or an output.", 5 S12 "Source Terminal 12. Can be an input or an output.", 6 S11 "Source Terminal 11. Can be an input or an output.", 7 S10 "Source Terminal 10. Can be an input or an output", 8 S9 "Source Terminal 9. Can be an input or an output.", 9 GND (power) "Ground (0 V) Reference.", 10 A3 (in) "Logic Control Input.", 11 A2 (in) "Logic Control Input.", 12 NC "No Connect.", 13 NC "No Connect.", 14 A1 (in) "Logic Control Input.", 15 A0 (in) "Logic Control Input.", 16 EN (in) "Active High Digital Input. When this pin is low, the device is disabled and all switches are turned off. When this pin is high, the Ax logic inputs determine which switch is turned on.", 17 S1 "Source Terminal 1. Can be an input or an output.", 18 S2 "Source Terminal 2. Can be an input or an output.", 19 S3 "Source Terminal 3. Can be an input or an output.", 20 S4 "Source Terminal 4. Can be an input or an output.", 21 S5 "Source Terminal 5. Can be an input or an output.", 22 S6 "Source Terminal 6. Can be an input or an output.", 23 S7 "Source Terminal 7. Can be an input or an output.", 24 S8 "Source Terminal 8. Can be an input or an output.", 25 VSS (power) "Most Negative Power Supply Potential. In single-supply applications, this pin can be  connected to ground.", 26 NC "No Connect.", 27 NC "No Connect.", 28 NC "No Connect.", 29 D "Drain Terminal. Can be an input or an output.", 30 NC "No Connect.", 31 VDD (power) "Most Positive Power Supply Potential.", 32 NC "No Connect.", 33 EP (power)

## ADG1206YRUZ
designator U?
Low Capacitance, 16-Channel +/-15 V / +12 V iCMOS(TM) Multiplexer, 120 Ohm, 28-pin SOP (RU-28), Tube; Manufacturer: Analog Devices; PartNumber: ADG1206YRUZ; Bandwidth (Hz): 280M, 185M; Max Analog Signal Range: Vss to Vdd; Ron (ohms): 120; t transition (s): 80n; DatasheetVersion: Rev. A; PackageVersion: Mar-05; PackageReference: RU-28; PackageDescription: 28-Pin Thin Shrink Small Outline Package, Body 9.7 x 4.4 mm, Pitch 0.65 mm; Supplier 1: Digi-Key; Supplier Part Number 1: ADG1206YRUZ-ND; Supplier 2: Farnell; Supplier Part Number 2: 1438936; Supplier 3: Newark; Supplier Part Number 3: 15P0352; Supplier 4: Newark; Supplier Part Number 4: 28M3577; Supplier 5: Mouser; Supplier Part Number 5: 584-ADG1206YRUZ; Packing: Tube; Mounting Technology: Surface Mount; Code_JEDEC: MO-153-AE; ComponentLink1Description: Manufacturer URL; ComponentLink1URL: http://www.analog.com/en/index.html; ComponentLink2Description: Datasheet; ComponentLink2URL: http://www.analog.com/static/imported-files/data_sheets/ADG1206_1207.pdf; ComponentLink3Description: Package Specification; ComponentLink3URL: http://www.analog.com/static/imported-files/packages/249854663RU_28.pdf
footprint ADI-RU-28_N (SOP, 28-Leads, Body 9.7x4.4mm, Pitch 0.65mm, IPC Medium Density)
footprint ADI-RU-28_L (SOP, 28-Leads, Body 9.7x4.4mm, Pitch 0.65mm, IPC High Density)
footprint ADI-RU-28_M (SOP, 28-Leads, Body 9.7x4.4mm, Pitch 0.65mm, IPC Low Density)
pins: 1 VDD (power) "Most Positive Power Supply Potential.", 2 NC "No Connect.", 3 NC "No Connect.", 4 S16 "Source Terminal 16. Can be an input or an output.", 5 S15 "Source Terminal 15. Can be an input or an output.", 6 S14 "Source Terminal 14. Can be an input or an output.", 7 S13 "Source Terminal 13. Can be an input or an output.", 8 S12 "Source Terminal 12. Can be an input or an output.", 9 S11 "Source Terminal 11. Can be an input or an output.", 10 S10 "Source Terminal 10. Can be an input or an output.", 11 S9 "Source Terminal 9. Can be an input or an output.", 12 GND (power) "Ground (0 V) Reference.", 13 NC "No Connect.", 14 A3 (in) "Logic Control Input.", 15 A2 (in) "Logic Control Input.", 16 A1 (in) "Logic Control Input.", 17 A0 (in) "Logic Control Input.", 18 EN (in) "Active High Digital Input. When this pin is low, the device is disabled and all switches are turned off. When this pin is high, the Ax logic inputs determine which switch is turned on.", 19 S1 "Source Terminal 1. Can be an input or an output.", 20 S2 "Source Terminal 2. Can be an input or an output.", 21 S3 "Source Terminal 3. Can be an input or an output.", 22 S4 "Source Terminal 4. Can be an input or an output.", 23 S5 "Source Terminal 5. Can be an input or an output.", 24 S6 "Source Terminal 6. Can be an input or an output.", 25 S7 "Source Terminal 7. Can be an input or an output.", 26 S8 "Source Terminal 8. Can be an input or an output.", 27 VSS (power) "Most Negative Power Supply Potential. In single-supply applications, this pin can be connected to ground.", 28 D "Drain Terminal. Can be an input or an output."

## ADG1206YRUZ-REEL7
designator U?
Low Capacitance, 16-Channel +/-15 V / +12 V iCMOS(TM) Multiplexer, 120 Ohm, 28-pin SOP (RU-28), Reel; Manufacturer: Analog Devices; PartNumber: ADG1206YRUZ-REEL7; Bandwidth (Hz): 280M, 185M; Max Analog Signal Range: Vss to Vdd; Ron (ohms): 120; t transition (s): 80n; DatasheetVersion: Rev. A; PackageVersion: Mar-05; PackageReference: RU-28; PackageDescription: 28-Pin Thin Shrink Small Outline Package, Body 9.7 x 4.4 mm, Pitch 0.65 mm; Supplier 1: Digi-Key; Supplier Part Number 1: ADG1206YRUZ-REEL7TR-ND; Supplier 2: Digi-Key; Supplier Part Number 2: ADG1206YRUZ-REEL7CT-ND; Supplier 3: Digi-Key; Supplier Part Number 3: ADG1206YRUZ-REEL7DKR-ND; Supplier 4: Newark; Supplier Part Number 4: 28M3578; Supplier 5: Mouser; Supplier Part Number 5: 584-ADG1206YRUZ-R7; Packing: Reel; Mounting Technology: Surface Mount; Code_JEDEC: MO-153-AE; ComponentLink1Description: Manufacturer URL; ComponentLink1URL: http://www.analog.com/en/index.html; ComponentLink2Description: Datasheet; ComponentLink2URL: http://www.analog.com/static/imported-files/data_sheets/ADG1206_1207.pdf; ComponentLink3Description: Package Specification; ComponentLink3URL: http://www.analog.com/static/imported-files/packages/249854663RU_28.pdf
footprint ADI-RU-28_N (SOP, 28-Leads, Body 9.7x4.4mm, Pitch 0.65mm, IPC Medium Density)
footprint ADI-RU-28_L (SOP, 28-Leads, Body 9.7x4.4mm, Pitch 0.65mm, IPC High Density)
footprint ADI-RU-28_M (SOP, 28-Leads, Body 9.7x4.4mm, Pitch 0.65mm, IPC Low Density)
pins: 1 VDD (power) "Most Positive Power Supply Potential.", 2 NC "No Connect.", 3 NC "No Connect.", 4 S16 "Source Terminal 16. Can be an input or an output.", 5 S15 "Source Terminal 15. Can be an input or an output.", 6 S14 "Source Terminal 14. Can be an input or an output.", 7 S13 "Source Terminal 13. Can be an input or an output.", 8 S12 "Source Terminal 12. Can be an input or an output.", 9 S11 "Source Terminal 11. Can be an input or an output.", 10 S10 "Source Terminal 10. Can be an input or an output.", 11 S9 "Source Terminal 9. Can be an input or an output.", 12 GND (power) "Ground (0 V) Reference.", 13 NC "No Connect.", 14 A3 (in) "Logic Control Input.", 15 A2 (in) "Logic Control Input.", 16 A1 (in) "Logic Control Input.", 17 A0 (in) "Logic Control Input.", 18 EN (in) "Active High Digital Input. When this pin is low, the device is disabled and all switches are turned off. When this pin is high, the Ax logic inputs determine which switch is turned on.", 19 S1 "Source Terminal 1. Can be an input or an output.", 20 S2 "Source Terminal 2. Can be an input or an output.", 21 S3 "Source Terminal 3. Can be an input or an output.", 22 S4 "Source Terminal 4. Can be an input or an output.", 23 S5 "Source Terminal 5. Can be an input or an output.", 24 S6 "Source Terminal 6. Can be an input or an output.", 25 S7 "Source Terminal 7. Can be an input or an output.", 26 S8 "Source Terminal 8. Can be an input or an output.", 27 VSS (power) "Most Negative Power Supply Potential. In single-supply applications, this pin can be connected to ground.", 28 D "Drain Terminal. Can be an input or an output."

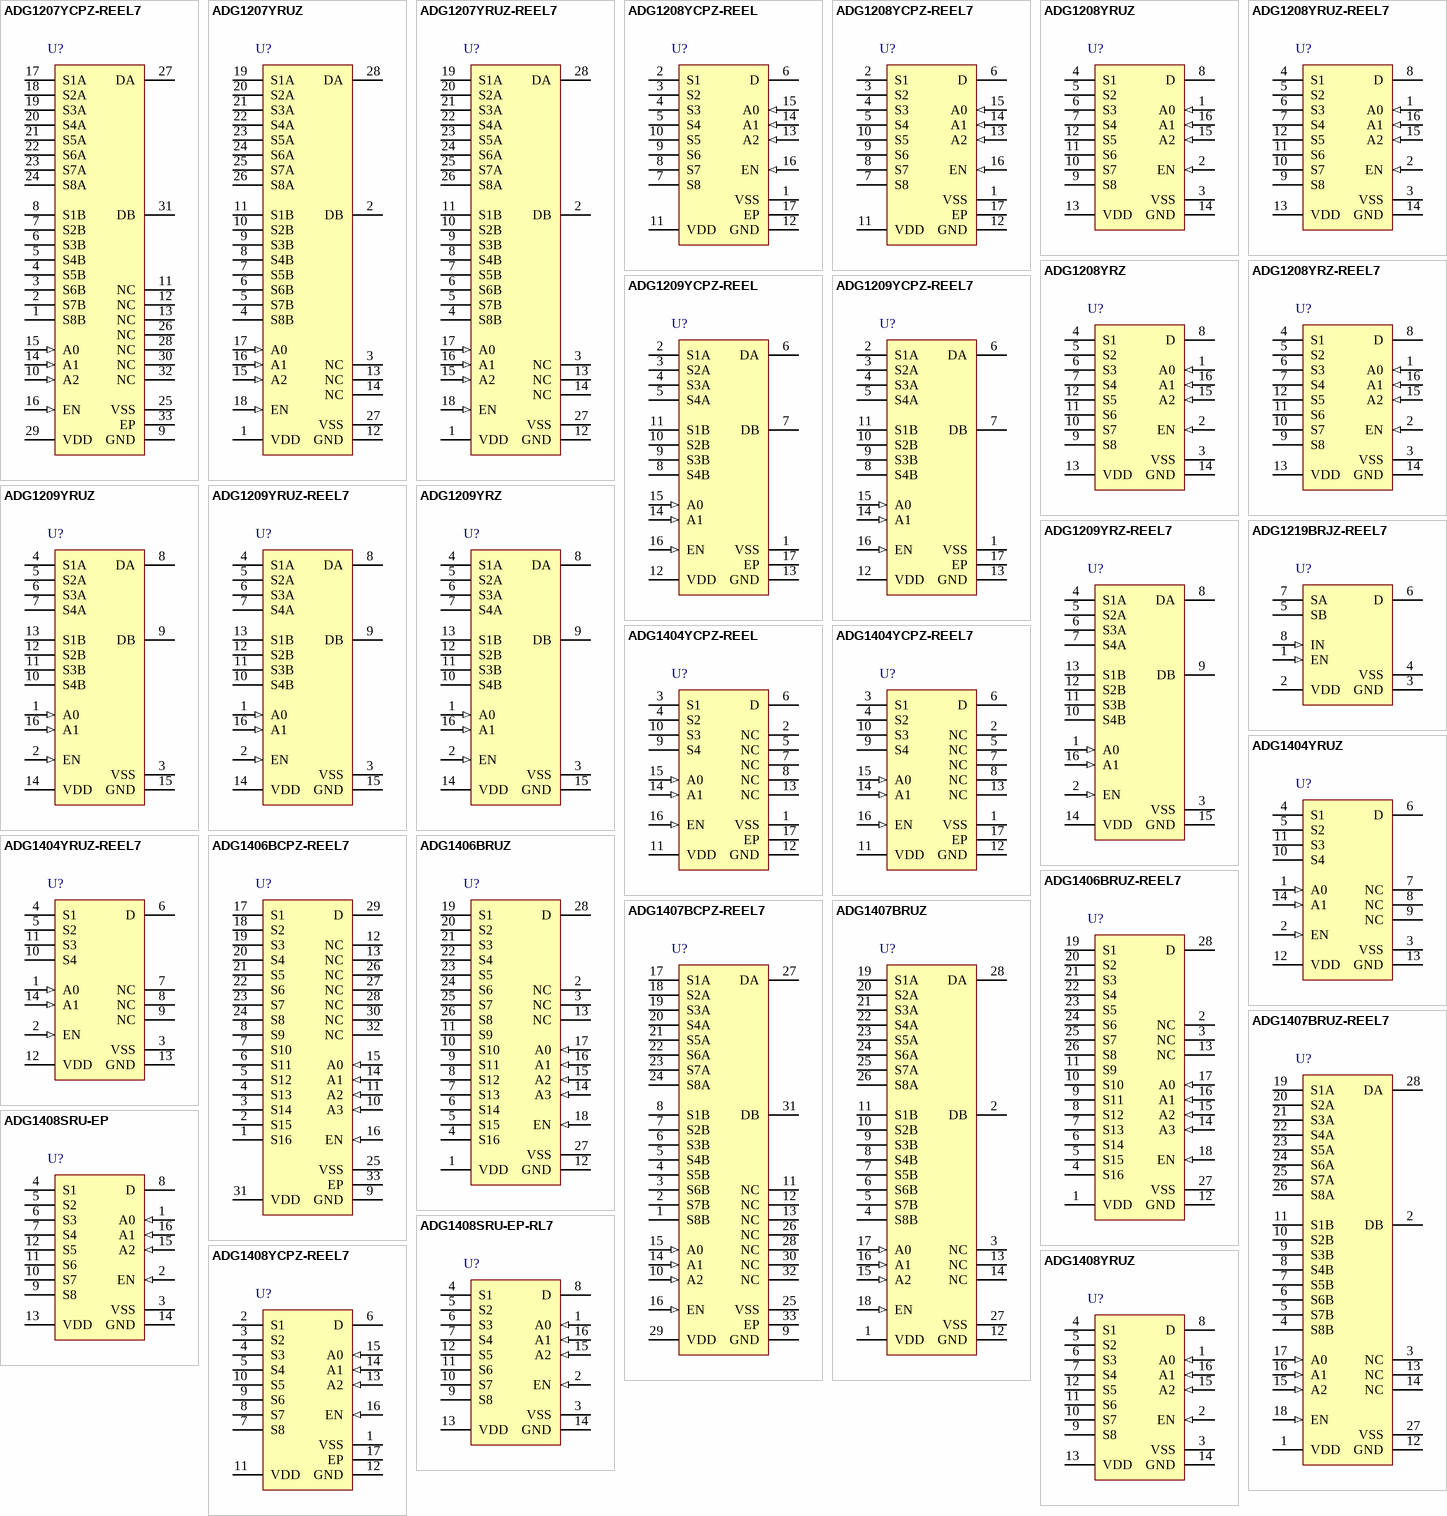
[diagram p14: symbols ADG1207YCPZ-REEL7 to ADG1408YRUZ]